# EAGLE library part 418317170907 (library EAGLE-TACT_SWITCHES-rev17c)
WS-PT 2.54 mm piano type compact THT Dip Switch with flat actuator, 7 Pole
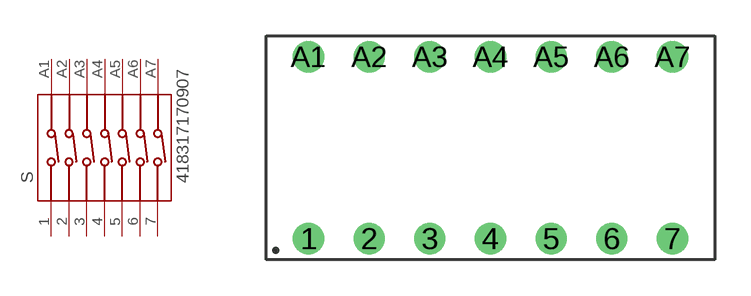
[diagram p66: symbol with the pads of 418317170907; footprint 418317170907]

Designator prefix S

## 418317170907  [418317170907]
1  1  pas
2  2  pas
3  3  pas
4  4  pas
5  5  pas
6  6  pas
7  7  pas
A1  A1  pas
A2  A2  pas
A3  A3  pas
A4  A4  pas
A5  A5  pas
A6  A6  pas
A7  A7  pas

## Footprint 418317170907 (pad centres in mm)
WS-PT 2.54 mm piano type compact THT Dip Switch with flat actuator, 7 Pole
drill 0.8: 1 -7.62,-3.81; 2 -5.08,-3.81; 3 -2.54,-3.81; 4 0,-3.81; 5 2.54,-3.81; 6 5.08,-3.81; 7 7.62,-3.81; A1 -7.62,3.81; A2 -5.08,3.81; A3 -2.54,3.81; A4 0,3.81; A5 2.54,3.81; A6 5.08,3.81; A7 7.62,3.81